# Altium footprint library rectifier.PcbLib: 1 footprints
Each footprint in its own frame and in the unit in brackets; x right, y up, seen from the top. Pads: shape width x height; smd on the part's side, far side on the other; paste and mask are expansions set on the pad; w line width, h text height; cw(c..) or ccw(c..) is an arc to the next point about the centre after c.
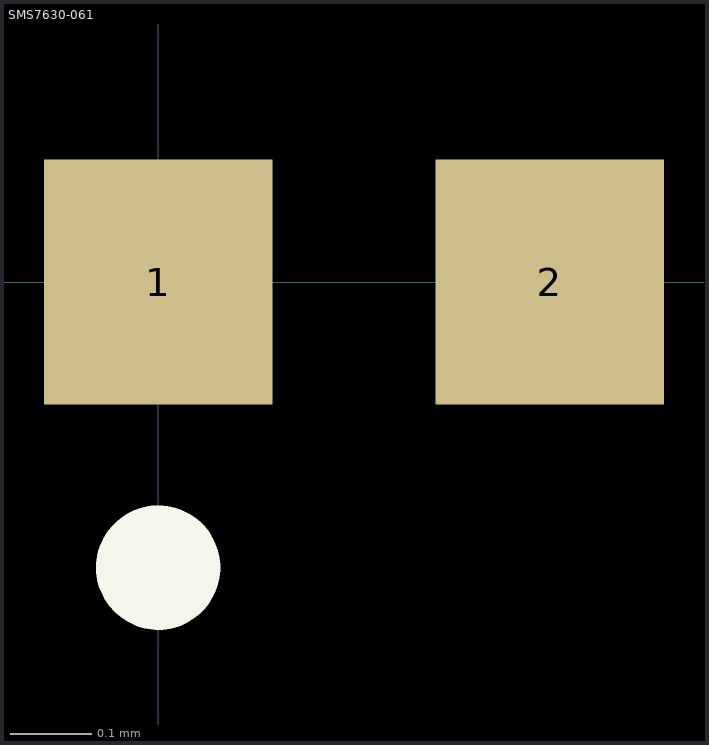
[diagram p0: the footprint, top view; thin cyan lines are the x and y axes]

## SMS7630-061 [mm]
pads (2):
  rect 0.28x0.3 smd paste+0 mask+0.05: 1(0,0) 2(0.48,0)
Top Overlay:
  circle w0.102: c0,-0.35 r0.025